# Altium footprint library openmvH71.PcbLib: 14 footprints
Each footprint in its own frame and in the unit in brackets; x right, y up, seen from the top. Pads: shape width x height; smd on the part's side, far side on the other; paste and mask are expansions set on the pad; w line width, h text height; cw(c..) or ccw(c..) is an arc to the next point about the centre after c.
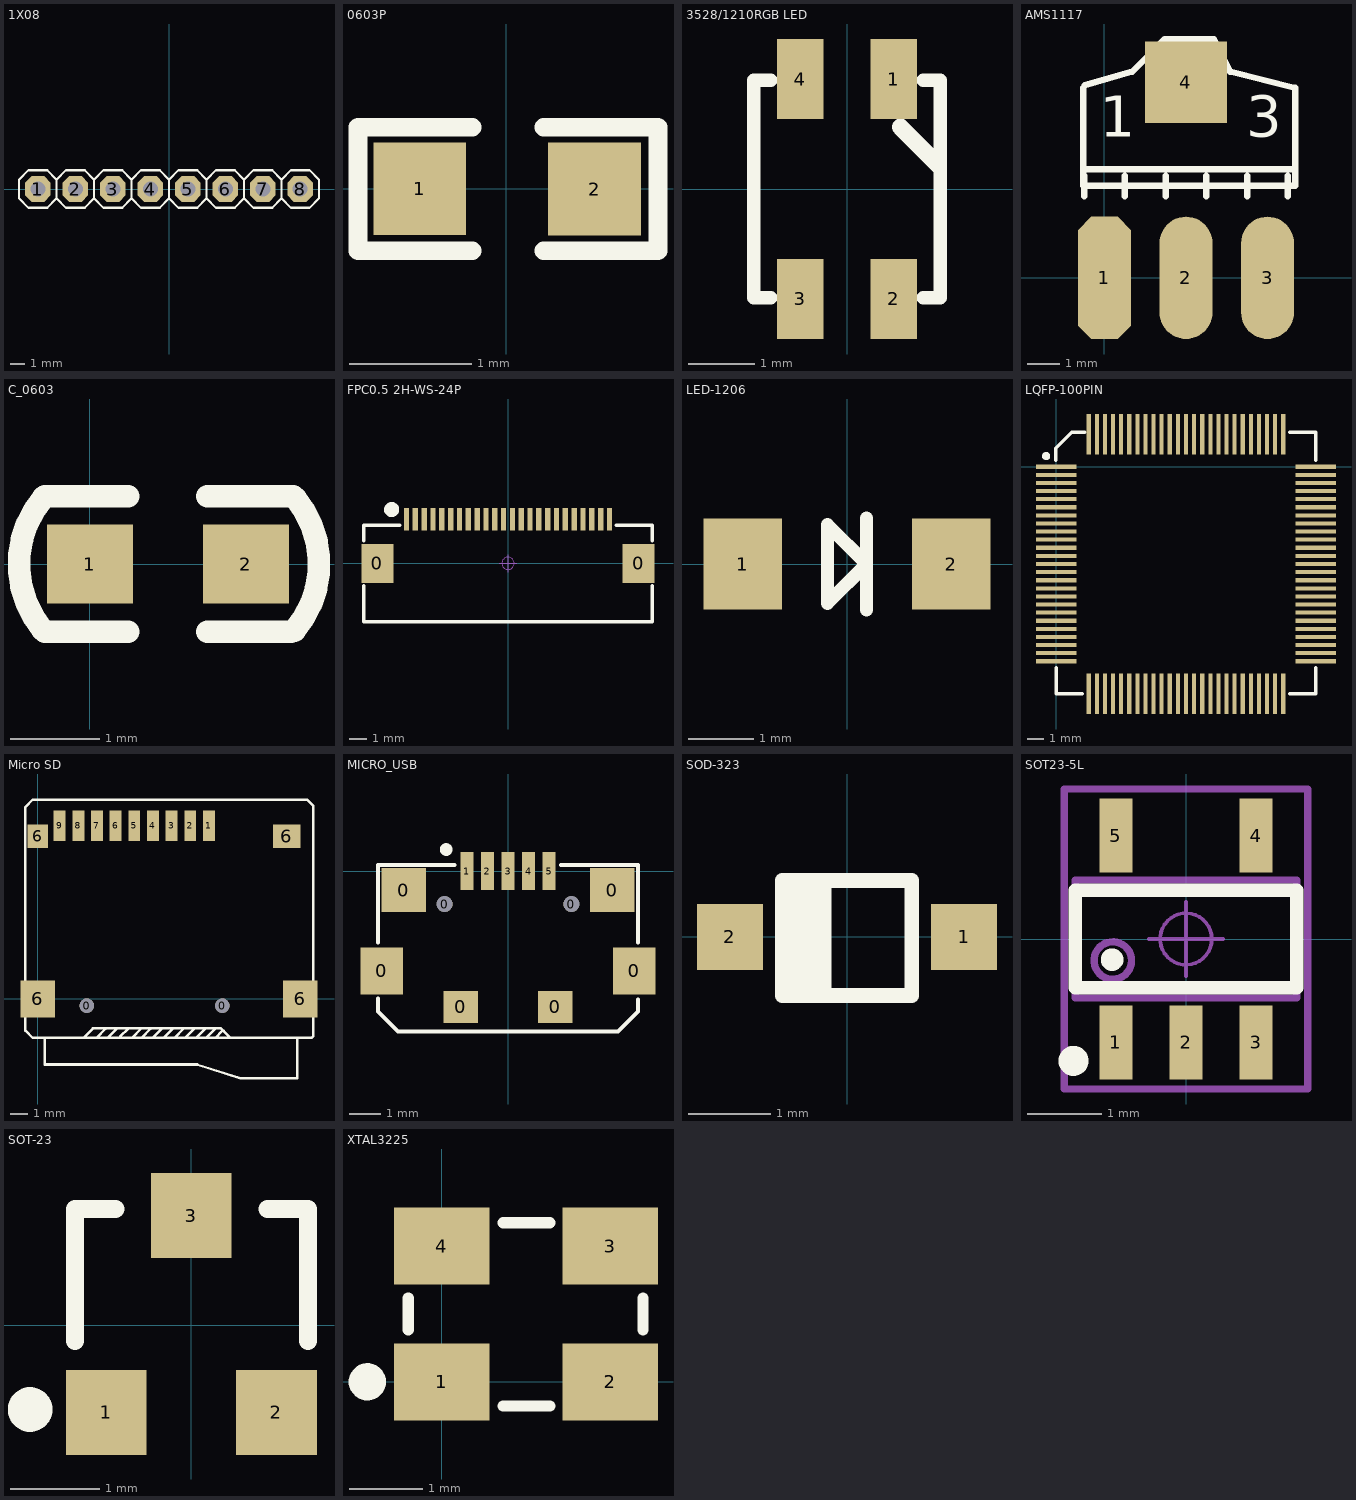
[diagram p0: the footprints below, top view; thin cyan lines are the x and y axes]

## 1X08 [mil]
pads (8):
  oct 68x68 hole 40: 1(-350,0) 2(-250,0) 3(-150,0) 4(-50,0) 5(50,0) 6(150,0) 7(250,0) 8(350,0)
Top Overlay:
  lines w6: -300,-25 -300,25 ; -300,-25 -325,-50 -375,-50 -400,-25 -400,25 -375,50 -325,50 -300,25 ; -300,-25 -275,-50 -225,-50 -200,-25 ; -300,25 -275,50 -225,50 -200,25 ; -200,-25 -175,-50 -125,-50 -100,-25 ; -200,-25 -200,25 ; -200,25 -175,50 -125,50 -100,25 ; -100,-25 -100,25 ; -100,-25 -75,-50 -25,-50 0,-25 ; -100,25 -75,50 -25,50 0,25 ; 0,-25 0,25 ; 0,-25 25,-50 75,-50 100,-25 ; 0,25 25,50 75,50 100,25 ; 100,-25 125,-50 175,-50 200,-25 ; 100,-25 100,25 ; 100,25 125,50 175,50 200,25 ; 200,-25 200,25 ; 200,-25 225,-50 275,-50 300,-25 ; 200,25 225,50 275,50 300,25 ; 300,-25 300,25 ; 300,-25 325,-50 375,-50 400,-25 400,25 375,50 325,50 300,25
Drill Guide:
  rectangle: 240,-10 260,10
  rectangle: 140,-10 160,10
  rectangle: 40,-10 60,10
  rectangle: -60,-10 -40,10
  rectangle: -160,-10 -140,10
  rectangle: -260,-10 -240,10
  rectangle: -360,-10 -340,10
  rectangle: 340,-10 360,10

## 0603P [mil]
pads (2):
  rect 30x30 smd: 1(-28,0) 2(28.5,-0.06)
Top Overlay:
  lines w6: -11,-20.06 -48,-20.06 -48,19.94 -11,19.94 ; 12,-20.06 49,-20.06 49,19.94 12,19.94

## 3528/1210RGB LED [mm]
pads (4):
  rect 0.7x1.2 smd: 1(0.7,1.65) 2(0.7,-1.65) 3(-0.7,-1.65) 4(-0.7,1.65)
Top Overlay:
  lines w0.203: -1.4,-1.63 -1.143,-1.63 ; -1.4,-1.6 -1.4,1.6 ; -1.4,1.63 -1.143,1.63 ; 1.143,-1.63 1.4,-1.63 ; 1.143,1.63 1.4,1.63 ; 1.4,-1.6 1.4,1.6
  lines w0.254: 0.8,0.927 1.371,0.355

## AMS1117 [mil]
pads (4):
  oct 65x150 smd: 1(0.03,-0.06)
  oval 65x150 smd: 2(100.03,-0.06) 3(200.03,-0.06)
  rect 100x100 smd: 4(100.03,239.94)
Top Overlay:
  lines w7.87: -25.97,232.94 -25.97,132.94 ; -24.97,99.94 -24.97,124.94 ; -24.3,236.27 34.03,252.94 74.03,292.94 134.03,292.94 154.03,252.94 234.03,232.94 234.03,112.94 ; 25.03,99.94 25.03,124.94 ; 75.03,99.94 75.03,124.94 ; 125.03,99.94 125.03,124.94 ; 175.03,99.94 175.03,124.94 ; 225.03,99.94 225.03,124.94 ; -25.97,132.94 -25.97,112.94 234.03,112.94 ; -25.97,132.94 234.03,132.94 234.03,112.94
  text "1" at -5.97,172.94 h50
  text "3" at 174.03,172.94 h50

## C_0603 [mil]
pads (2):
  rect 38x35 smd: 1(0,0) 2(69,0)
Top Overlay:
  lines w10: -21,-29 cw(c14.45,-0.04) -20.48,29.56 ; -20,-30 17,-30 ; -20,30 17,30 ; 52,-30 89,-30 ; 52,30 90,30 ; 90.48,-29.56 ccw(c55.55,0.04) 91,29
3D body "User Library-0603 SMD Capacitor.STEP": height 11.89, standoff 0, extent 3.8,-15.8 66.8,15.7

## FPC0.5 2H-WS-24P [mm]
pads (26):
  rect 1.8x2.2 smd: 0(-7.4,0) 0(7.4,0)
  rect 0.3x1.3 smd: 1(-5.75,2.497) 2(-5.25,2.497) 3(-4.75,2.497) 4(-4.25,2.497) 5(-3.75,2.497) 6(-3.25,2.497) 7(-2.75,2.497) 8(-2.25,2.497) 9(-1.75,2.497) 10(-1.25,2.497) 11(-0.75,2.497) 12(-0.25,2.497) 13(0.25,2.497) 14(0.75,2.497) 15(1.25,2.497) 16(1.75,2.497) 17(2.25,2.497) 18(2.75,2.497) 19(3.25,2.497) 20(3.75,2.497) 21(4.25,2.497) 22(4.75,2.497) 23(5.25,2.497) 24(5.75,2.497)
Top Overlay:
  circle w0.5: c-6.594,3.048 r0.18
  lines w0.2: -8.175,-1.27 -8.175,-3.302 8.175,-3.302 8.175,-1.27 ; -8.175,1.27 -8.175,2.159 -6.143,2.159 ; 6.143,2.159 8.175,2.159 8.175,1.27
Mechanical 15:
  circle w0.05: c0,0 r0.35
  lines w0.05: -0.5,0 0.5,0 ; 0,-0.5 0,0.5
3D body "FPC0.5 2H-S-W-24P.STEP": height 2, standoff -0.01, extent -8.1,-3.15 8.1,2.85

## LED-1206 [mm]
pads (2):
  rect 1.2x1.4 smd: 1(-1.6,0) 2(1.6,0)
Top Overlay:
  lines w0.203: 0.3,-0.7 0.3,0 ; 0.3,0.7 0.3,0 ; 0.3,0 -0.3,-0.6 -0.3,0.6 0.3,0

## LQFP-100PIN [mm]
pads (100):
  rect 2.5x0.254 smd: 1(0,0) 2(0,-0.5) 3(0,-1) 4(0,-1.5) 5(0,-2) 6(0,-2.5) 7(0,-3) 8(0,-3.5) 9(0,-4) 10(0,-4.5) 11(0,-5) 12(0,-5.5) 13(0,-6) 14(0,-6.5) 15(0,-7) 16(0,-7.5) 17(0,-8) 18(0,-8.5) 19(0,-9) 20(0,-9.5) 21(0,-10) 22(0,-10.5) 23(0,-11) 24(0,-11.5) 25(0,-12) 51(16,-12) 52(16,-11.5) 53(16,-11) 54(16,-10.5) 55(16,-10) 56(16,-9.5) 57(16,-9) 58(16,-8.5) 59(16,-8) 60(16,-7.5) 61(16,-7) 62(16,-6.5) 63(16,-6) 64(16,-5.5) 65(16,-5) 66(16,-4.5) 67(16,-4) 68(16,-3.5) 69(16,-3) 70(16,-2.5) 71(16,-2) 72(16,-1.5) 73(16,-1) 74(16,-0.5) 75(16,0)
  rect 0.254x2.5 smd: 26(2,-14) 27(2.5,-14) 28(3,-14) 29(3.5,-14) 30(4,-14) 31(4.5,-14) 32(5,-14) 33(5.5,-14) 34(6,-14) 35(6.5,-14) 36(7,-14) 37(7.5,-14) 38(8,-14) 39(8.5,-14) 40(9,-14) 41(9.5,-14) 42(10,-14) 43(10.5,-14) 44(11,-14) 45(11.5,-14) 46(12,-14) 47(12.5,-14) 48(13,-14) 49(13.5,-14) 50(14,-14) 76(14,2) 77(13.5,2) 78(13,2) 79(12.5,2) 80(12,2) 81(11.5,2) 82(11,2) 83(10.5,2) 84(10,2) 85(9.5,2) 86(9,2) 87(8.5,2) 88(8,2) 89(7.5,2) 90(7,2) 91(6.5,2) 92(6,2) 93(5.5,2) 94(5,2) 95(4.5,2) 96(4,2) 97(3.5,2) 98(3,2) 99(2.5,2) 100(2,2)
Top Overlay:
  lines w0.2: -0.025,0.375 -0.025,1.15 0.95,2.125 1.75,2.125 ; 0,-12.375 0,-14 1.625,-14 ; 14.375,-14 16,-14 16,-12.375 ; 14.4,2.125 16,2.125 16,0.375
  lines w0.254: -0.5,0.675 ccw(c-0.624,0.657) -0.499,0.657
3D body "User Library-LQFP100_Grid_0_5.STEP": height 1.6, standoff 0, extent 0,-13.975 16,2.025

## Micro SD [mm]
pads (15):
  round 0.85 hole 0.85 unplated: 0(2.9,-0.4) 0(10.9,-0.4)
  rect 0.7x1.8 smd: 1(10.1,10.227) 2(9,10.227) 3(7.9,10.227) 4(6.8,10.227) 5(5.7,10.227) 6(4.6,10.227) 7(3.5,10.227) 8(2.4,10.227) 9(1.3,10.227)
  rect 2.032x2.2 smd: 6(0,0) 6(15.5,0)
  rect 1.2x1.4 smd: 6(0,9.6)
  rect 1.6x1.4 smd: 6(14.7,9.6)
Top Overlay:
  lines w0.152: 0.423,-2.295 0.423,-3.87 9.414,-3.87 ; 3.471,-2.295 4.004,-1.762 4.004,-1.736 ; 4.131,-2.295 4.639,-1.787 4.639,-1.736 ; 4.868,-2.295 4.868,-2.219 5.35,-1.736 ; 5.553,-2.295 6.112,-1.736 6.138,-1.736 ; 6.138,-2.295 6.671,-1.762 6.671,-1.736 ; 6.773,-2.295 7.331,-1.736 7.433,-1.736 ; 7.433,-2.295 7.992,-1.736 8.017,-1.736 ; 8.068,-2.295 8.601,-1.762 8.601,-1.736 ; 8.703,-2.295 9.262,-1.736 9.389,-1.736 ; 9.338,-2.295 9.897,-1.736 9.922,-1.736 ; 9.389,-3.87 11.954,-4.683 15.307,-4.683 15.307,-2.321 ; 9.922,-2.295 10.481,-1.736 ; 10.481,-2.295 10.887,-1.889 10.964,-1.889 ; -0.289,-2.295 2.709,-2.295 3.267,-1.736 10.811,-1.736 11.37,-2.295 16.171,-2.295 ; -0.289,-2.295 16.171,-2.295 ; -0.289,-2.295 -0.72,-1.863 -0.72,11.319 -0.289,11.751 15.891,11.751 16.272,11.37 16.272,-2.194 16.171,-2.295
3D body "sdcard.STEP": height 1.8, standoff -0.7, extent -0.272,-4.625 16.002,10.569

## MICRO_USB [mm]
pads (13):
  rect 1.35x1.5 smd: 0(-4,-3.16) 0(4,-3.16)
  rect 1.4x1.4 smd: 0(-3.3,-0.6) 0(3.3,-0.6)
  round 0.5 hole 0.5 paste+0 mask+0: 0(-2.007,-1.041) 0(2.007,-1.041)
  rect 1.1x1 smd: 0(-1.5,-4.3) 0(1.5,-4.3)
  rect 0.4x1.2 smd: 1(-1.3,0) 2(-0.65,0) 3(0,0) 4(0.65,0) 5(1.3,0)
Top Overlay:
  circle w0.2: c-1.957,0.686 r0.1
  lines w0.127: -4.115,-4.039 -4.115,-4.445 -3.48,-5.08 3.48,-5.08 4.115,-4.445 4.115,-4.064 ; -4.115,-2.261 -4.115,0.203 -1.702,0.203 ; 1.676,0.203 4.115,0.203 4.115,-2.261
3D body "2174507-2.stp": height 2.83, standoff 0.13, extent -3.9,-4.724 3.9,0.276

## SOD-323 [mm]
pads (2):
  rect 0.8x0.8 smd: 1(1.422,0) 2(-1.422,0)
Top Overlay:
  rectangle: -0.787,-0.737 -0.33,0.635
  lines w0.178: -0.279,-0.711 -0.279,0.686 ; -0.787,-0.711 0.787,-0.711 0.787,0.686 -0.787,0.686 -0.787,-0.711

## SOT23-5L [mm]
pads (5):
  rect 0.45x1 smd: 1(-0.95,-1.4) 2(0,-1.4) 3(0.95,-1.4) 4(0.95,1.4) 5(-0.95,1.4)
Top Overlay:
  circle w0.254: c-1.001,-0.279 r0.025
  circle w0.254: c-1.524,-1.651 r0.076
  lines w0.178: -1.5,-0.66 1.5,-0.66 1.5,0.66 -1.5,0.66 -1.5,-0.66
Mechanical 13:
  circle w0.1: c-0.992,-0.292 r0.254
  lines w0.1: -1.5,-0.8 -1.5,0.8 1.5,0.8 1.5,-0.8 -1.5,-0.8
Mechanical 15:
  circle w0.05: c0,0 r0.35
  lines w0.05: -0.5,0 0.5,0 ; 0,-0.5 0,0.5
  lines w0.1: -1.651,-2.032 -1.651,2.032 1.651,2.032 1.651,-2.032 -1.651,-2.032
3D body "SOT23-5.STEP": height 1.15, standoff -0.03, extent -1.5,-1.403 1.5,1.403

## SOT-23 [mm]
pads (3):
  rect 0.9x0.95 smd: 1(-0.95,-0.972) 2(0.95,-0.972) 3(0,1.226)
Top Overlay:
  circle w0.25: c-1.801,-0.94 r0.125
  lines w0.2: -1.3,-0.173 -1.3,1.302 -0.85,1.302 ; 0.85,1.302 1.3,1.302 1.3,-0.173

## XTAL3225 [mm]
pads (4):
  rect 1.3x1.05 smd: 1(0,0) 2(2.3,0) 3(2.3,1.85) 4(0,1.85)
Top Overlay:
  circle w0.254: c-1.016,0 r0.127
  lines w0.152: -0.457,0.711 -0.457,1.143 ; 0.838,-0.33 1.473,-0.33 ; 0.838,2.17 1.473,2.17 ; 2.743,0.711 2.743,1.143